# EAGLE library part N25Q032A11E (library C3-Micron)
Micron 32Mb 1.8V Serial FLASH
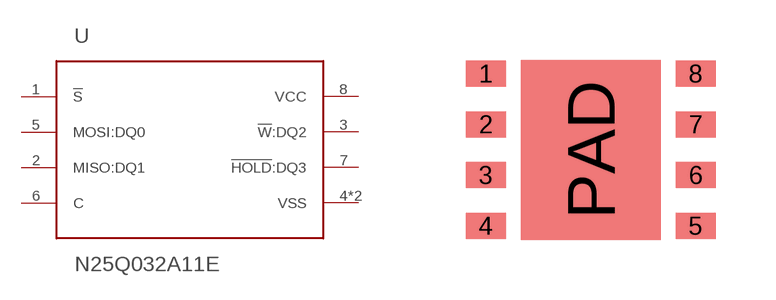
[diagram p1: symbol with the pads of MLP-6X5-8; footprint MLP-6X5-8]

Designator prefix U

## N25Q032A11EF6  [MLP-6X5-8]
1  !S  in
2  MISO:DQ1  out
3  !W!:DQ2
4  VSS  pwr
5  MOSI:DQ0  in
6  C  in
7  !HOLD!:DQ3
8  VCC  pwr
PAD  VSS  pwr

## Footprint MLP-6X5-8 (pad centres in mm)
MLP 6x5 8-lead land pattern Datasheet <http://www.fairchildsemi.com/an/AN/AN-5067.pdf>
smd 1 x 0.65: 1 -2.625,1.905; 2 -2.625,0.635; 3 -2.625,-0.635; 4 -2.625,-1.905; 5 2.625,-1.905; 6 2.625,-0.635; 7 2.625,0.635; 8 2.625,1.905
smd 3.5 x 4.5: PAD 0,0